# Altium footprint library SOJ-28_300mil.PcbLib: 1 footprints
Each footprint in its own frame and in the unit in brackets; x right, y up, seen from the top. Pads: shape width x height; smd on the part's side, far side on the other; paste and mask are expansions set on the pad; w line width, h text height; cw(c..) or ccw(c..) is an arc to the next point about the centre after c.
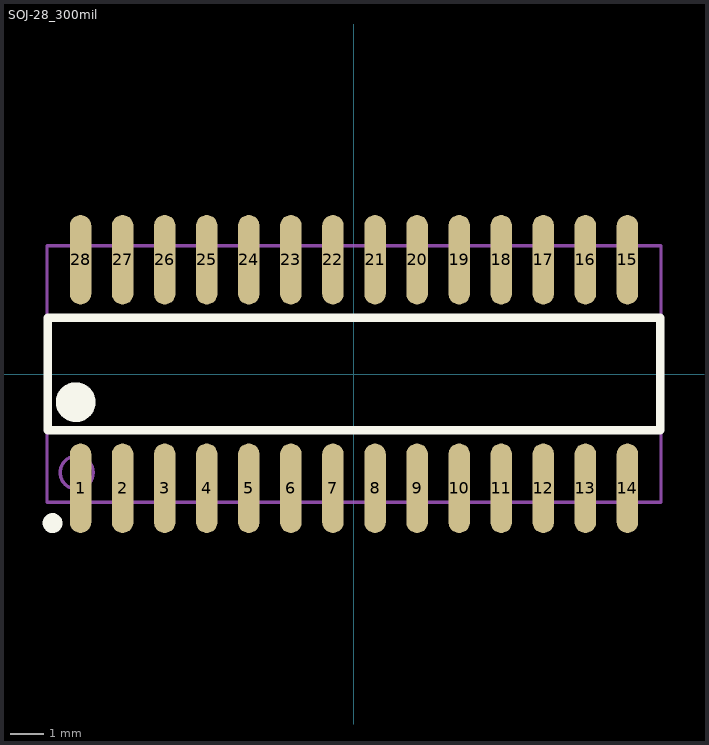
[diagram p0: the footprint, top view; thin cyan lines are the x and y axes]

## SOJ-28_300mil [mm]
pads (28):
  oval 0.65x2.7 smd: 1(-8.255,-3.45) 2(-6.985,-3.45) 3(-5.715,-3.45) 4(-4.445,-3.45) 5(-3.175,-3.45) 6(-1.905,-3.45) 7(-0.635,-3.45) 8(0.635,-3.45) 9(1.905,-3.45) 10(3.175,-3.45) 11(4.445,-3.45) 12(5.715,-3.45) 13(6.985,-3.45) 14(8.255,-3.45) 15(8.255,3.45) 16(6.985,3.45) 17(5.715,3.45) 18(4.445,3.45) 19(3.175,3.45) 20(1.905,3.45) 21(0.635,3.45) 22(-0.635,3.45) 23(-1.905,3.45) 24(-3.175,3.45) 25(-4.445,3.45) 26(-5.715,3.45) 27(-6.985,3.45) 28(-8.255,3.45)
Top Overlay:
  circle w0.3: c-9.1,-4.5 r0.15
  circle w0.6: c-8.4,-0.85 r0.3
  lines w0.254: -9.25,-1.7 -9.25,1.7 9.25,1.7 9.25,-1.7 -9.25,-1.7
Mechanical 13:
  circle w0.1: c-8.37,-2.975 r0.5
  lines w0.1: -9.27,-3.875 -9.27,3.875 9.27,3.875 9.27,-3.875 -9.27,-3.875